# EAGLE library part FT232RQ (library SparkFun)
Non-stock item, unproven FP for this part.
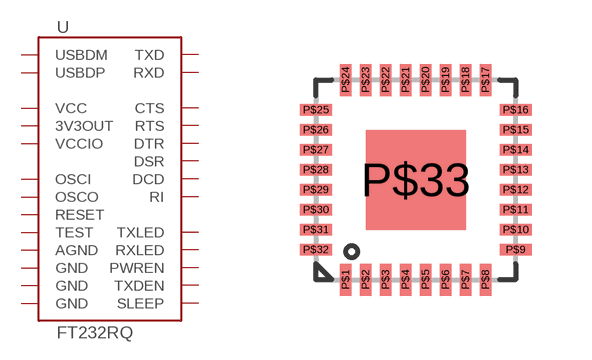
[diagram p308: symbol with the pads of QFN-32; footprint QFN-32]

Designator prefix -

## FT232RQ  [QFN-32]
P$1  VCCIO  pwr
P$2  RXD  in
P$3  RI  in
P$4  GND  pwr
P$6  DSR  in
P$7  DCD  in
P$8  CTS  in
P$9  SLEEP  in
P$10  TXDEN  in
P$11  PWREN  in
P$14  USBDP
P$15  USBDM
P$16  3V3OUT  out
P$17  GND  pwr
P$18  RESET  in
P$19  VCC  pwr
P$20  GND  pwr
P$21  RXLED  in
P$22  TXLED  in
P$24  AGND  pwr
P$26  TEST  in
P$27  OSCI  in
P$28  OSCO  out
P$30  TXD  out
P$31  DTR  out
P$32  RTS  out

## Footprint QFN-32 (pad centres in mm)
smd 0.285 x 0.8: P$1 -1.75,-2.5; P$2 -1.25,-2.5; P$3 -0.75,-2.5; P$4 -0.25,-2.5; P$5 0.25,-2.5; P$6 0.75,-2.5; P$7 1.25,-2.5; P$8 1.75,-2.5; P$17 1.75,2.5; P$18 1.25,2.5; P$19 0.75,2.5; P$20 0.25,2.5; P$21 -0.25,2.5; P$22 -0.75,2.5; P$23 -1.25,2.5; P$24 -1.75,2.5
smd 0.8 x 0.285: P$9 2.5,-1.75; P$10 2.5,-1.25; P$11 2.5,-0.75; P$12 2.5,-0.25; P$13 2.5,0.25; P$14 2.5,0.75; P$15 2.5,1.25; P$16 2.5,1.75; P$25 -2.5,1.75; P$26 -2.5,1.25; P$27 -2.5,0.75; P$28 -2.5,0.25; P$29 -2.5,-0.25; P$30 -2.5,-0.75; P$31 -2.5,-1.25; P$32 -2.5,-1.75
smd 2.5 x 2.5: P$33 0,0